# Altium schematic symbol library AF_Lib.SchLib: 4 symbols
Pins are listed as number, name and electrical type; pins without a type are passive.

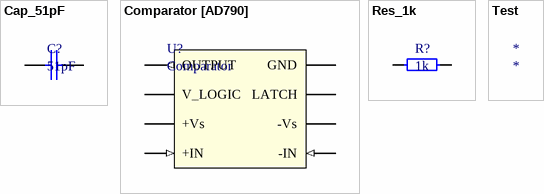
[diagram p0: symbols Cap_51pF to Test]

## Cap_51pF
designator C?, comment 51pF
51pF NPO 50В 5%; Manufacturer: Murata Manufacturing; Part Number: GRM2165C1H510JZ01D; Type: Capacitor; ComponentLink1Description: ChipDip; ComponentLink1URL: https://www.chipdip.ru/product/grm2165c1h510j
footprint 0603 Resistor
pins: 1, 2

## Comparator [AD790]
designator U?, comment Comparator
Precision comparer [AD790JRZ], min 4.5V, max 33V; Manufacturer: Analog Devices; ComponentLink1Description: ChipDip; ComponentLink1URL: https://www.chipdip.ru/product/ad790jr; ComponentLink2Description: DataSheet; ComponentLink2URL: https://static.chipdip.ru/lib/143/DOC000143744.pdf; Part Number: AD790JRZ
footprint SO-8
pins: 1 OUTPUT (out), 2 V_LOGIC, 3 +Vs (power), 4 +IN (in), 5 -IN (in), 6 -Vs (power), 7 LATCH, 8 GND (power)

## Res_1k
designator R?, comment 1k
0.125W 0603 1k 5%; Manufacturer: Taiwan; Part Number: RC0603JR-071KL; ComponentLink1Description: ChipDip; ComponentLink1URL: https://www.chipdip.ru/product0/10149; Type: Resistor
footprint 0603 Resistor
pins: 1, 2

## Test
designator *